# Altium schematic symbol library Modulos_Sche.SchLib: 5 symbols
Pins are listed as number, name and electrical type; pins without a type are passive.

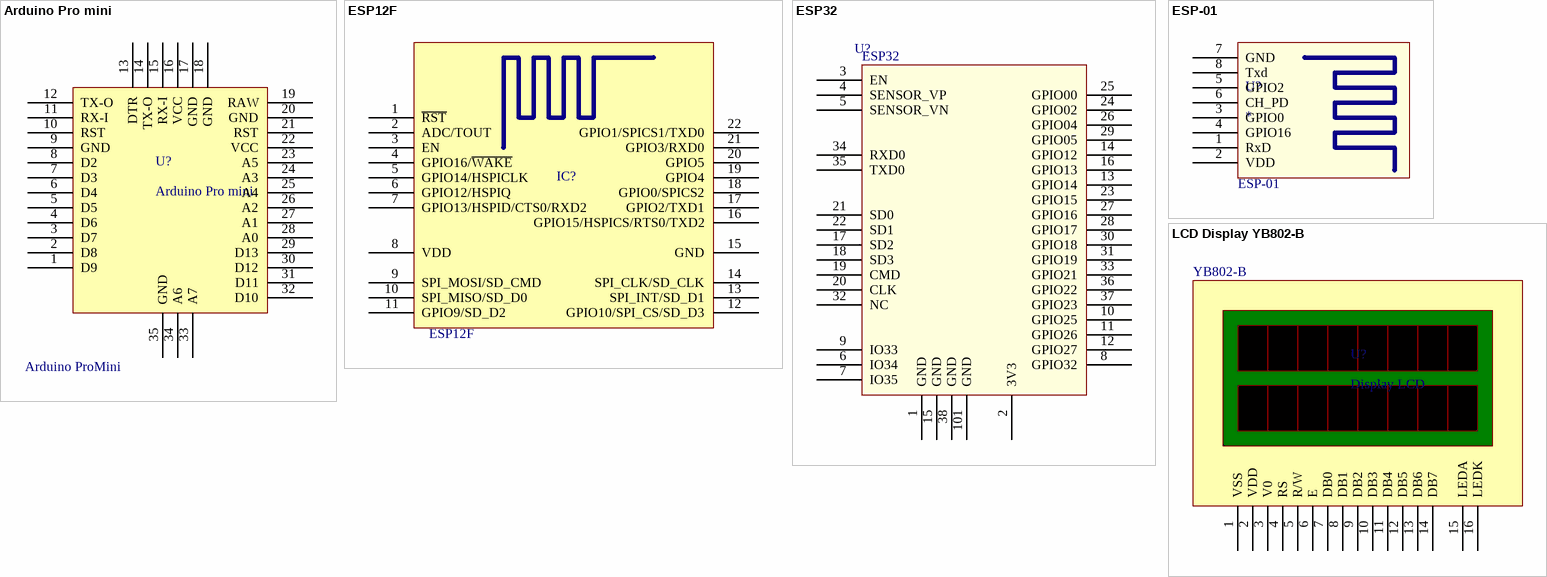
[diagram p0: symbols Arduino Pro mini to LCD Display YB802-B]

## Arduino Pro mini
designator U?  Modelo: Arduino ProMini
Descrição: Modulo Arduino ProMini; Valor: *; Encapsulamento: *; Marca: *; Observação: *
footprint Arduino Pro Mini
pins: 1 D9, 2 D8, 3 D7, 4 D6, 5 D5, 6 D4, 7 D3, 8 D2, 9 GND, 10 RST, 11 RX-I, 12 TX-O, 13 DTR, 14 TX-O, 15 RX-I, 16 VCC, 17 GND, 18 GND, 19 RAW, 20 GND, 21 RST, 22 VCC, 23 A5, 24 A3, 25 A4, 26 A2, 27 A1, 28 A0, 29 D13, 30 D12, 31 D11, 32 D10, 33 A7, 34 A6, 35 GND

## ESP12F
designator IC?
ESP8266 ESP-12-E; Descrição: Modulo ESP12F; Encapsulamento: SMD; Marca: Espressif; Observação: Modulo com Microcontrolador ESP8266; Valor: *; Modelo: ESP12F
footprint ESP8266 ESP-12-F - SMD (ESP8266 ESP-12-E)
pins: 1 ~{RST} "Reset", 2 ADC/TOUT "ADC Input Or TOUT Output", 3 EN "Chip enable", 4 GPIO16/~{WAKE} "GPIO16 or Deep-Sleep Wakeup", 5 GPIO14/HSPICLK "GPIO14 or SPI CLK", 6 GPIO12/HSPIQ "GPIO12 or SPIQ", 7 GPIO13/HSPID/CTS0/RXD2 "GPIO13 or SPID", 8 VDD "Power supply", 9 SPI_MOSI/SD_CMD "GPIO14 or SPI CLK", 10 SPI_MISO/SD_D0 "GPIO12 or SPIQ", 11 GPIO9/SD_D2 "GPIO13 or SPID", 12 GPIO10/SPI_CS/SD_D3 "GPIO15 or SPICS", 13 SPI_INT/SD_D1 "GPIO2 or TX", 14 SPI_CLK/SD_CLK "GPIO0 or SPICS2", 15 GND "Power ground", 16 GPIO15/HSPICS/RTS0/TXD2 "GPIO15 or SPICS", 17 GPIO2/TXD1 "GPIO2 or TX", 18 GPIO0/SPICS2 "GPIO0 or SPICS2", 19 GPIO4 "GPIO5", 20 GPIO5 "GPIO4", 21 GPIO3/RXD0 "GPIO3 or UART RXD", 22 GPIO1/SPICS1/TXD0 "GPIO1 or UART TXD"

## ESP32
designator U?  Modelo: ESP32  (hidden comment: *)
Modulo Wifi ESP32; Encapsulamento: SMD; Marca: Espressif; Descrição: Modulo WiFi; Valor: *; Observação: *
footprint ESP32S_W (Esp32S Module wide for hand soldering)
pins: 1 GND (power), 2 3V3 (power), 3 EN (power), 4 SENSOR_VP, 5 SENSOR_VN, 6 IO34, 7 IO35, 8 GPIO32, 9 IO33, 10 GPIO25, 11 GPIO26, 12 GPIO27, 13 GPIO14, 14 GPIO12, 15 GND (power), 16 GPIO13, 17 SD2, 18 SD3, 19 CMD, 20 CLK, 21 SD0, 22 SD1, 23 GPIO15, 24 GPIO02, 25 GPIO00, 26 GPIO04, 27 GPIO16, 28 GPIO17, 29 GPIO05, 30 GPIO18, 31 GPIO19, 32 NC, 33 GPIO21, 34 RXD0, 35 TXD0, 36 GPIO22, 37 GPIO23, 38 GND (power), 101 GND (power)

## ESP-01
designator U?  Modelo: ESP-01
Modulo Wi-Fi ESP01; Descrição: Modulo ESP-01; Encapsulamento: PTH; Valor: *; Marca: *; Observação: *
footprint ESP8266 ESP-01
pins: 1 RxD, 2 VDD, 3 GPIO0, 4 GPIO16, 5 GPIO2, 6 CH_PD, 7 GND, 8 Txd

## LCD Display YB802-B
designator U?, comment Display LCD  Modelo: YB802-B
Descrição: Display LCD 8x2; Encapsulamento: PTH; Valor: *; Marca: *; Observação: *
footprint DISPLAY LCD YB802-B
pins: 1 VSS, 2 VDD, 3 V0, 4 RS, 5 R/W, 6 E, 7 DB0, 8 DB1, 9 DB2, 10 DB3, 11 DB4, 12 DB5, 13 DB6, 14 DB7, 15 LEDA, 16 LEDK